# Altium integrated library LT1961.IntLib: 1 symbol
Pins are listed as number, name and electrical type; pins without a type are passive.

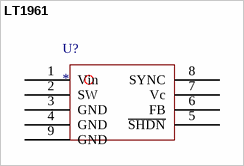
[diagram p0: symbol LT1961]

## LT1961
designator U?
footprint LT1961(TSOP65P490X110_HS-9N) (TSOP, 8-Leads, Body 3.00x3.00mm, Pitch 0.65mm, Thermal Pad 2.09x2.09mm, IPC Medium Density)
pins: 1 Vin, 2 SW, 3 GND, 4 GND, 5 ~{SHDN}, 6 FB, 7 Vc, 8 SYNC, 9 GND